# EAGLE library part SI-60062-F (library parts)
MagJack 10/100 Base-T Ethernet connector
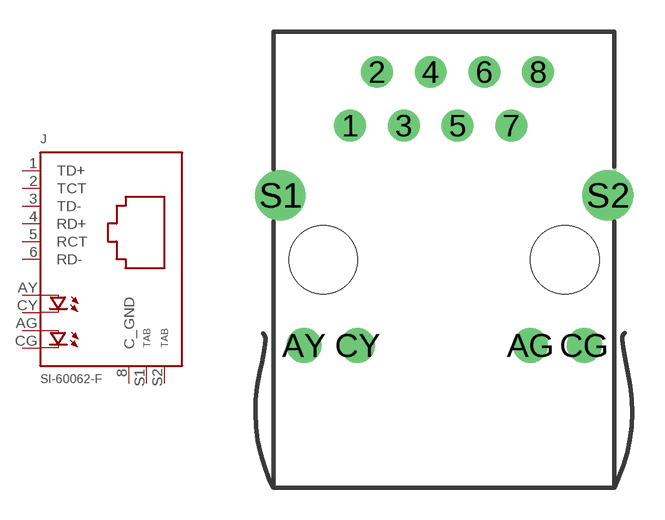
[diagram p6: symbol with the pads of SI-60062-F; footprint SI-60062-F]

Designator prefix J

## SI-60062-F (RS: 741-8489)  [SI-60062-F]
1  TD+  pas
2  TCT  pas
3  TD-  pas
4  RD+  pas
5  RCT  pas
6  RD-  pas
8  C_GND  pas
AG  AG  pas
AY  AY  pas
CG  CG  pas
CY  CY  pas
S1  TAB1  pas
S2  TAB2  pas

## Footprint SI-60062-F (pad centres in mm)
Ethernet Connector (MagJack) Source: SI-60062-F.pdf
drill 1: 1 -4.445,6.35; 2 -3.175,8.89; 3 -1.905,6.35; 4 -0.635,8.89; 5 0.635,6.35; 6 1.905,8.89; 7 3.175,6.35; 8 4.445,8.89
drill 1.1: AG 4.089,-4.064; AY -6.629,-4.064; CG 6.629,-4.064; CY -4.089,-4.064
drill 1.6 pad 2.2: S1 -7.747,3.048; S2 7.747,3.048
hole 3.251 at -5.715,0
hole 3.251 at 5.715,0